# Altium schematic symbol library USB_Hub.SCHLIB: 2 symbols
Pins are listed as number, name and electrical type; pins without a type are passive.

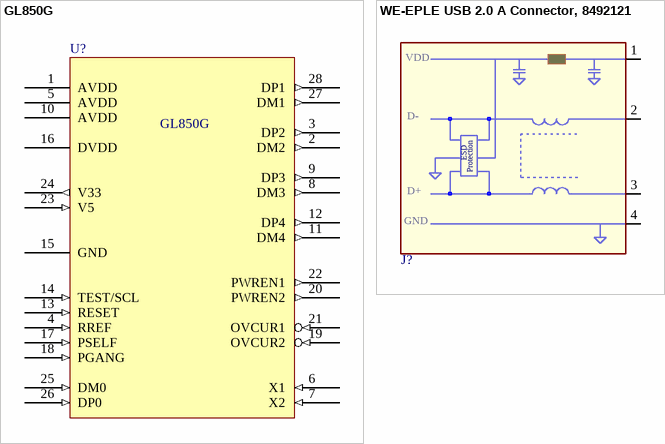
[diagram p0: symbols GL850G to WE-EPLE USB 2.0 A Connector, 8492121]

## GL850G
designator U?
footprint SOP65P780X200-28N (SOP, 28-Leads, Body 10.20x5.30mm, Pitch 0.65mm, IPC Medium Density)
pins: 1 AVDD (power), 2 DM2 (out), 3 DP2 (out), 4 RREF (in), 5 AVDD (power), 6 X1 (in), 7 X2 (in), 8 DM3 (out), 9 DP3 (out), 10 AVDD (power), 11 DM4 (out), 12 DP4 (out), 13 RESET (in), 14 TEST/SCL (in), 15 GND (power), 16 DVDD (power), 17 PSELF (in), 18 PGANG (in), 19 OVCUR2 (in), 20 PWREN2 (out), 21 OVCUR1 (in), 22 PWREN1 (out), 23 V5 (in), 24 V33 (out), 25 DM0 (in), 26 DP0 (in), 27 DM1 (out), 28 DP1 (out)

## WE-EPLE USB 2.0 A Connector, 8492121
designator J?, comment 8492121  (value not drawn)
THT USB 2.0 A Connector WE-EPLE; Manufacturer: Würth Elektronik eiSos GmbH; PartNo: 8492121; ComponentLink1Description: Manufacturer; ComponentLink1URL: http://www.we-online.de; Created by: Christin Otto; Created Date: OCT-2014; ComponentLink2Description: Datasheet; ComponentLink2URL: http://www.we-online.de/katalog/media/pdf/8492121.pdf
footprint WE-EPLE (THT, USB 2.0 A Connector, 4Pin, Body 15.8 x14.5mm)
pins: 1 VBUS, 2 D-, 3 D+, 4 GND
text: VDD; ESD; Protection